# EAGLE library part WE-LAN_1000_BASETX_74902002X (library Wuerth_Elektronik_eiSos_ v6.1)
LAN-Transformer WE-LAN 1000 Base Tx - Compliant with IEEE 802.3 standards - SMD -- Ethernet -- Power over Ethernet -- 1 Gigabit Ethernet -- Compliant with most IC's for ethernet applications like Intel, AMD, Globespan and Realtek -- Hub, Router, Switch
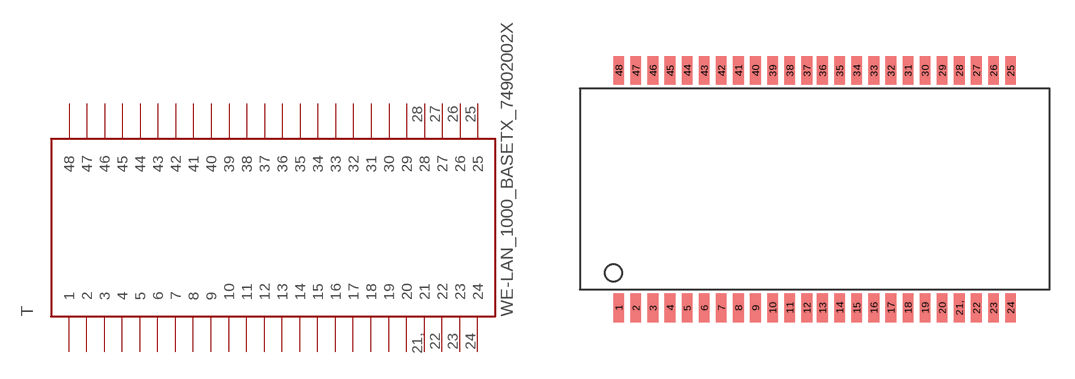
[diagram p35: symbol with the pads of WE-LAN_1000_BASETX_74902002X_749023020; footprint WE-LAN_1000_BASETX_74902002X_749023020]

Designator prefix T

## WE-LAN_1000_BASETX_74902002X74902002X  [WE-LAN_1000_BASETX_74902002X_749023020]
1  1  pas
2  2  pas
3  3  pas
4  4  pas
5  5  pas
6  6  pas
7  7  pas
8  8  pas
9  9  pas
10  10  pas
11  11  pas
12  12  pas
13  13  pas
14  14  pas
15  15  pas
16  16  pas
17  17  pas
18  18  pas
19  19  pas
20  20  pas
21,  21  pas
22  22  pas
23  23  pas
24  24  pas
25  25  pas
26  26  pas
27  27  pas
28  28  pas
29  29  pas
30  30  pas
31  31  pas
32  32  pas
33  33  pas
34  34  pas
35  35  pas
36  36  pas
37  37  pas
38  38  pas
39  39  pas
40  40  pas
41  41  pas
42  42  pas
43  43  pas
44  44  pas
45  45  pas
46  46  pas
47  47  pas
48  48  pas

## Footprint WE-LAN_1000_BASETX_74902002X_749023020 (pad centres in mm)
WE-LAN 1000 BaseTx
smd 0.64 x 1.715: 1 -11.685,-7.082; 2 -10.665,-7.082; 3 -9.645,-7.082; 4 -8.625,-7.082; 5 -7.605,-7.082; 6 -6.585,-7.082; 7 -5.567,-7.082; 8 -4.547,-7.082; 9 -3.527,-7.082; 10 -2.507,-7.082; 11 -1.487,-7.082; 12 -0.467,-7.082; 13 0.467,-7.082; 14 1.487,-7.082; 15 2.507,-7.082; 16 3.527,-7.082; 17 4.547,-7.082; 18 5.567,-7.082; 19 6.585,-7.082; 20 7.605,-7.082; 21, 8.625,-7.082; 22 9.645,-7.082; 23 10.665,-7.082; 24 11.685,-7.082; 25 11.685,7.082; 26 10.665,7.082; 27 9.645,7.082; 28 8.625,7.082; 29 7.605,7.082; 30 6.585,7.082; 31 5.567,7.082; 32 4.547,7.082; 33 3.527,7.082; 34 2.507,7.082; 35 1.487,7.082; 36 0.467,7.082; 37 -0.467,7.082; 38 -1.487,7.082; 39 -2.507,7.082; 40 -3.527,7.082; 41 -4.547,7.082; 42 -5.567,7.082; 43 -6.585,7.082; 44 -7.605,7.082; 45 -8.625,7.082; 46 -9.645,7.082; 47 -10.665,7.082; 48 -11.685,7.082